# EAGLE library part XV-8100CB (library Lysenko_Eagle_Lib)
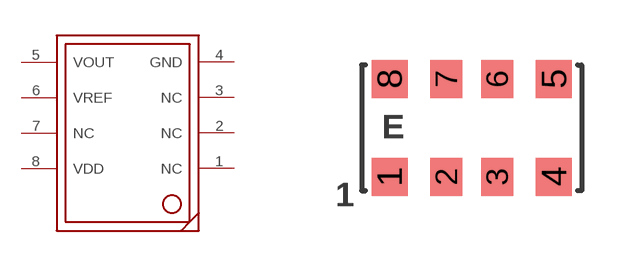
[diagram p24: symbol with the pads of XV-8100CB; footprint XV-8100CB]

Designator prefix -

## XV-8100CB  [XV-8100CB]
1  NC
2  NC
3  NC
4  GND
5  VOUT
6  VREF
7  NC
8  VDD

## Footprint XV-8100CB (pad centres in mm)
smd 0.9 x 0.95: 1 0,0; 4 4.11,0; 5 4.11,2.45; 8 0,2.45
smd 0.8 x 0.95: 2 1.42,0; 3 2.69,0; 6 2.69,2.45; 7 1.42,2.45